# Altium footprint library SIR426DPT1GE3.PcbLib: 1 footprints
Each footprint in its own frame and in the unit in brackets; x right, y up, seen from the top. Pads: shape width x height; smd on the part's side, far side on the other; paste and mask are expansions set on the pad; w line width, h text height; cw(c..) or ccw(c..) is an arc to the next point about the centre after c.
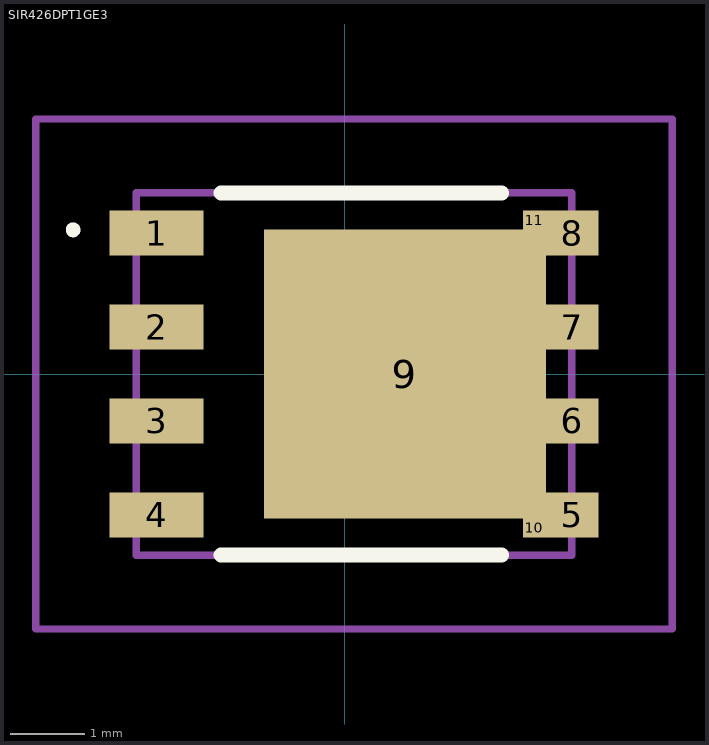
[diagram p0: the footprint, top view; thin cyan lines are the x and y axes]

## SIR426DPT1GE3 [mm]
pads (11):
  rect 1.27x0.61 smd: 1(-2.543,1.905) 2(-2.543,0.635) 3(-2.543,-0.635) 4(-2.543,-1.905)
  rect 0.71x0.61 smd: 5(3.077,-1.905) 6(3.077,-0.635) 7(3.077,0.635) 8(3.077,1.905)
  rect 3.81x3.91 smd: 9(0.817,0)
  rect 0.31x0.255 smd: 10(2.567,-2.083) 11(2.567,2.083)
Top Overlay:
  lines w0.1: -3.673,1.9 cw(c-3.673,1.95) -3.673,2 cw(c-3.673,1.95) -3.673,1.9
  lines w0.2: -1.673,-2.45 2.127,-2.45 ; -1.673,2.45 2.127,2.45
Mechanical 13:
  lines w0.1: -2.818,-2.45 3.072,-2.45 3.072,2.45 -2.818,2.45 -2.818,-2.45
Mechanical 15:
  lines w0.1: -4.178,-3.45 4.432,-3.45 4.432,3.45 -4.178,3.45 -4.178,-3.45
3D body "SIR426DP-T1-GE3.stp": height 1.12, standoff 0, extent -2.946,-2.578 3.2,2.578